# EAGLE library part KBLES_TRANSISTOR (library Transistor_module)
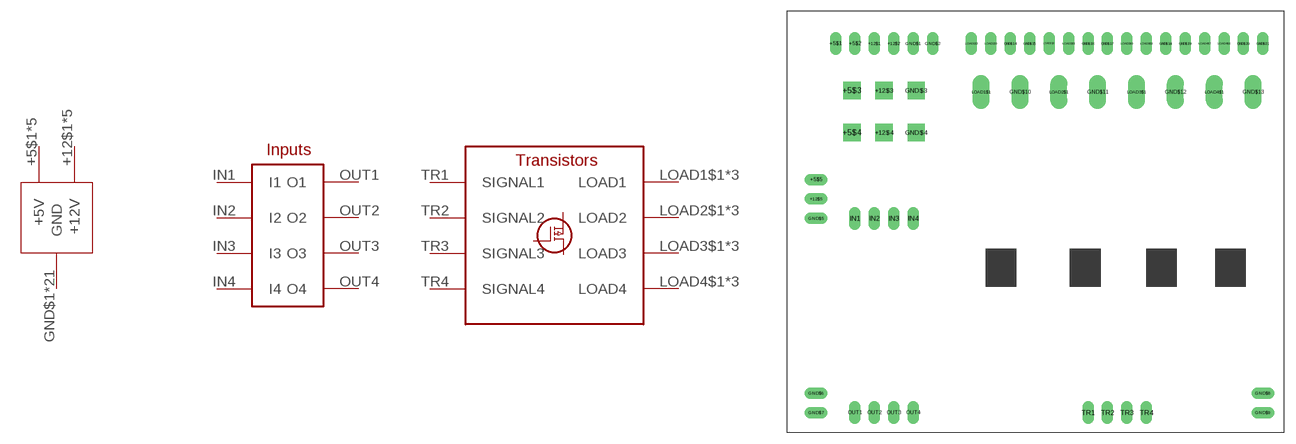
[diagram p0: symbol with the pads of KBLES_TRANSISTOR; footprint KBLES_TRANSISTOR]

Designator prefix -; gates G$1=INPUTS G$2=POWER G$3=TRANSISTOR

## KBLES_TRANSISTOR  [KBLES_TRANSISTOR]
+5$1  G$2:+5V  pwr
+5$2  G$2:+5V  pwr
+5$3  G$2:+5V  pwr
+5$4  G$2:+5V  pwr
+5$5  G$2:+5V  pwr
+12$1  G$2:+12V  pwr
+12$2  G$2:+12V  pwr
+12$3  G$2:+12V  pwr
+12$4  G$2:+12V  pwr
+12$5  G$2:+12V  pwr
GND$1  G$2:GND  pwr
GND$2  G$2:GND  pwr
GND$3  G$2:GND  pwr
GND$4  G$2:GND  pwr
GND$5  G$2:GND  pwr
GND$6  G$2:GND  pwr
GND$7  G$2:GND  pwr
GND$8  G$2:GND  pwr
GND$9  G$2:GND  pwr
GND$10  G$2:GND  pwr
GND$11  G$2:GND  pwr
GND$12  G$2:GND  pwr
GND$13  G$2:GND  pwr
GND$14  G$2:GND  pwr
GND$15  G$2:GND  pwr
GND$16  G$2:GND  pwr
GND$17  G$2:GND  pwr
GND$18  G$2:GND  pwr
GND$19  G$2:GND  pwr
GND$20  G$2:GND  pwr
GND$21  G$2:GND  pwr
IN1  G$1:I1
IN2  G$1:I2
IN3  G$1:I3
IN4  G$1:I4
LOAD1$1  G$3:LOAD1
LOAD1$2  G$3:LOAD1
LOAD1$3  G$3:LOAD1
LOAD2$1  G$3:LOAD2
LOAD2$2.  G$3:LOAD2
LOAD2$3  G$3:LOAD2
LOAD3$1  G$3:LOAD3
LOAD3$2  G$3:LOAD3
LOAD3$3  G$3:LOAD3
LOAD4$1  G$3:LOAD4
LOAD4$2  G$3:LOAD4
LOAD4$3  G$3:LOAD4
OUT1  G$1:O1
OUT2  G$1:O2
OUT3  G$1:O3
OUT4  G$1:O4
TR1  G$3:SIGNAL1
TR2  G$3:SIGNAL2
TR3  G$3:SIGNAL3
TR4  G$3:SIGNAL4

## Footprint KBLES_TRANSISTOR (pad centres in mm)
drill 1 long: +5$1 6.35,50.8; +5$2 8.89,50.8; +5$5 3.81,33.02; +12$1 11.43,50.8; +12$2 13.97,50.8; +12$5 3.81,30.48; GND$1 16.51,50.8; GND$2 19.05,50.8; GND$5 3.81,27.94; GND$6 3.81,5.08; GND$7 3.81,2.54; GND$8 62.23,5.08; GND$9 62.23,2.54; GND$14 29.21,50.8; GND$15 31.75,50.8; GND$16 39.37,50.8; GND$17 41.91,50.8; GND$18 49.53,50.8; GND$19 52.07,50.8; GND$20 59.69,50.8; GND$21 62.23,50.8; IN1 8.89,27.94; IN2 11.43,27.94; IN3 13.97,27.94; IN4 16.51,27.94; LOAD1$2 24.13,50.8; LOAD1$3 26.67,50.8; LOAD2$2. 34.29,50.8; LOAD2$3 36.83,50.8; LOAD3$2 44.45,50.8; LOAD3$3 46.99,50.8; LOAD4$2 54.61,50.8; LOAD4$3 57.15,50.8; OUT1 8.89,2.54; OUT2 11.43,2.54; OUT3 13.97,2.54; OUT4 16.51,2.54; TR1 39.37,2.54; TR2 41.91,2.54; TR3 44.45,2.54; TR4 46.99,2.54
drill 1.5 square: +5$3 8.5,44.66; +5$4 8.5,39.16; +12$3 12.7,44.66; +12$4 12.7,39.16; GND$3 16.9,44.66; GND$4 16.9,39.16
drill 1.5 long: GND$10 30.48,44.45; GND$11 40.64,44.45; GND$12 50.8,44.45; GND$13 60.96,44.45; LOAD1$1 25.4,44.45; LOAD2$1 35.56,44.45; LOAD3$1 45.72,44.45; LOAD4$1 55.88,44.45